# Altium schematic symbol library Schottky_x2_anode.SchLib: 1 symbol
Pins are listed as number, name and electrical type; pins without a type are passive.

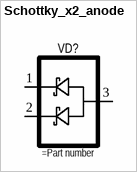
[diagram p0: symbol Schottky_x2_anode]

## Schottky_x2_anode
designator VD?
pins: 1, 2, 3